# EAGLE library part TSV912 (library digital_dash)
OP AMP also TSV912A Source: https://www.ti.com/lit/ds/symlink/tsv912.pdf
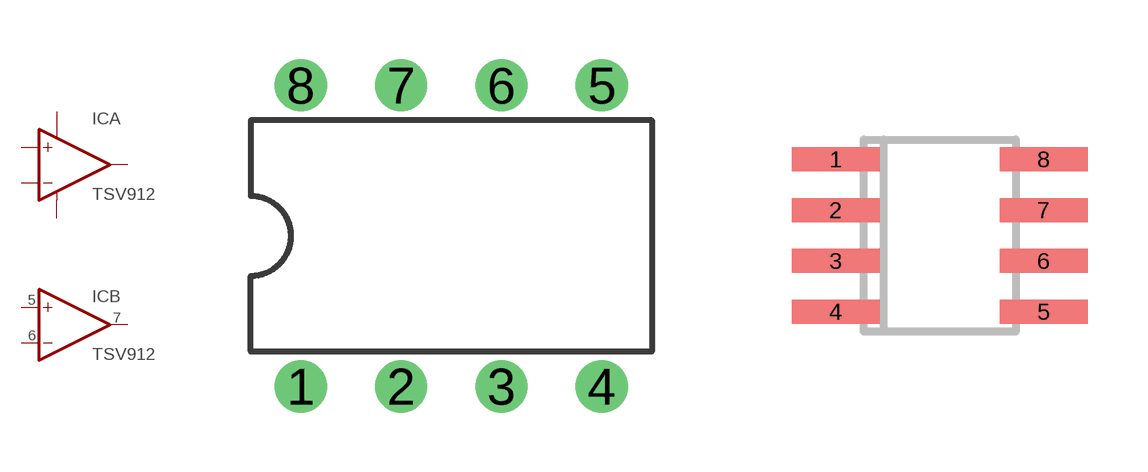
[diagram p8: symbol with the pads of DIL08; footprints DIL08, SO08]

Designator prefix IC; gates B=OPAMP A=OP-AMP+-

## TSV912N  [DIL08]
5  B:+IN  in
6  B:-IN  in
7  B:OUT  out

## TSV912D  [SO08]
1  A:OUT  out
2  A:-IN  in
3  A:+IN  in
4  A:V-  pwr
5  B:+IN  in
6  B:-IN  in
7  B:OUT  out
8  A:V+  pwr

## TSV912MX  [SO08]
Pads as for DIL08

## Footprint DIL08 (pad centres in mm)
Dual In Line Package
drill 0.813 pad 1.27: 1 -3.81,-3.81; 2 -1.27,-3.81; 3 1.27,-3.81; 4 3.81,-3.81; 5 3.81,3.81; 6 1.27,3.81; 7 -1.27,3.81; 8 -3.81,3.81

## Footprint SO08 (pad centres in mm)
Small Outline Package 8 NS Package M08A
smd 2.2 x 0.6: 1 -2.6,1.905; 2 -2.6,0.635; 3 -2.6,-0.635; 4 -2.6,-1.905; 5 2.6,-1.905; 6 2.6,-0.635; 7 2.6,0.635; 8 2.6,1.905